# EAGLE library part JS5208 (library JS5208)
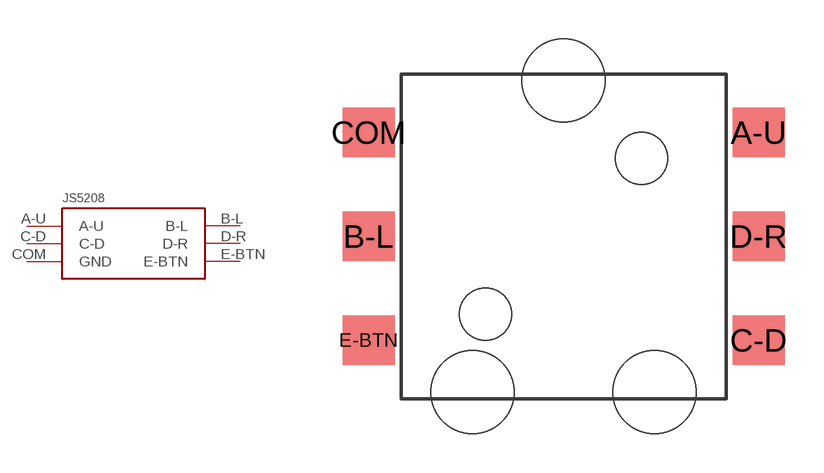
[diagram p0: symbol with the pads of JS5208_PKG; footprint JS5208_PKG]

Designator prefix -

## JS5208 (Availability: Unavailable; Description: JS Series 20 mA Gull Wing Silver Contact Navigation Switch; MF: E-Switch; MP: JS5208; Package: None; Price: None)  [JS5208_PKG]
A-U  A-U
B-L  B-L
C-D  C-D
COM  GND
D-R  D-R
E-BTN  E-BTN

## Footprint JS5208_PKG (pad centres in mm)
smd 2 x 1.9: A-U 7.5,4; B-L -7.5,0; C-D 7.5,-4; COM -7.5,4; D-R 7.5,0; E-BTN -7.5,-4
hole 3.2 at -3.5,-6
hole 3.2 at 3.5,-6
hole 3.2 at 0,6
hole 2 at -3,-3
hole 2 at 3,3